# EAGLE library part OPEN_CON+SUPPLY (library Bat-Components)
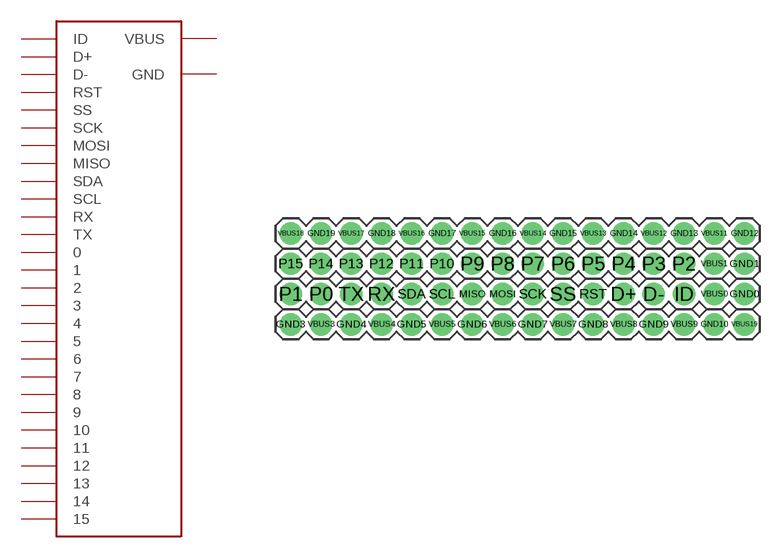
[diagram p2: symbol with the pads of 4X16; footprint 4X16]

Designator prefix -

## OPEN_CON+SUPPLY  [4X16]
D+  D+
D-  D-
GND0  GND
GND1  GND
GND3  GND
GND4  GND
GND5  GND
GND6  GND
GND7  GND
GND8  GND
GND9  GND
GND10  GND
GND12  GND
GND13  GND
GND14  GND
GND15  GND
GND16  GND
GND17  GND
GND18  GND
GND19  GND
ID  ID
MISO  MISO
MOSI  MOSI
P0  0
P1  1
P2  2
P3  3
P4  4
P5  5
P6  6
P7  7
P8  8
P9  9
P10  10
P11  11
P12  12
P13  13
P14  14
P15  15
RST  RST
RX  RX
SCK  SCK
SCL  SCL
SDA  SDA
SS  SS
TX  TX
VBUS0  VBUS
VBUS1  VBUS
VBUS3  VBUS
VBUS4  VBUS
VBUS5  VBUS
VBUS6  VBUS
VBUS7  VBUS
VBUS8  VBUS
VBUS9  VBUS
VBUS11  VBUS
VBUS12  VBUS
VBUS13  VBUS
VBUS14  VBUS
VBUS15  VBUS
VBUS16  VBUS
VBUS17  VBUS
VBUS18  VBUS
VBUS19  VBUS

## Footprint 4X16 (pad centres in mm)
drill 1.016 pad 1.88: D+ 8.89,-1.27; D- 11.43,-1.27; GND0 19.05,-1.27; GND1 19.05,1.27; GND3 -19.05,-3.81; GND4 -13.97,-3.81; GND5 -8.89,-3.81; GND6 -3.81,-3.81; GND7 1.27,-3.81; GND8 6.35,-3.81; GND9 11.43,-3.81; GND10 16.51,-3.81; GND12 19.05,3.81; GND13 13.97,3.81; GND14 8.89,3.81; GND15 3.81,3.81; GND16 -1.27,3.81; GND17 -6.35,3.81; GND18 -11.43,3.81; GND19 -16.51,3.81; ID 13.97,-1.27; MISO -3.81,-1.27; MOSI -1.27,-1.27; P0 -16.51,-1.27; P1 -19.05,-1.27; P2 13.97,1.27; P3 11.43,1.27; P4 8.89,1.27; P5 6.35,1.27; P6 3.81,1.27; P7 1.27,1.27; P8 -1.27,1.27; P9 -3.81,1.27; P10 -6.35,1.27; P11 -8.89,1.27; P12 -11.43,1.27; P13 -13.97,1.27; P14 -16.51,1.27; P15 -19.05,1.27; RST 6.35,-1.27; RX -11.43,-1.27; SCK 1.27,-1.27; SCL -6.35,-1.27; SDA -8.89,-1.27; SS 3.81,-1.27; TX -13.97,-1.27; VBUS0 16.51,-1.27; VBUS1 16.51,1.27; VBUS3 -16.51,-3.81; VBUS4 -11.43,-3.81; VBUS5 -6.35,-3.81; VBUS6 -1.27,-3.81; VBUS7 3.81,-3.81; VBUS8 8.89,-3.81; VBUS9 13.97,-3.81; VBUS11 16.51,3.81; VBUS12 11.43,3.81; VBUS13 6.35,3.81; VBUS14 1.27,3.81; VBUS15 -3.81,3.81; VBUS16 -8.89,3.81; VBUS17 -13.97,3.81; VBUS18 -19.05,3.81; VBUS19 19.05,-3.81